# EAGLE library part DIP-BLACK-MALE-HEADER-VERT(18P-2.54) (library Seeed-OPL-Connector)
320020053
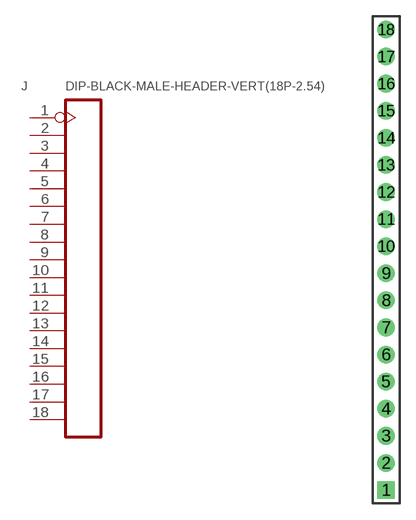
[diagram p88: symbol with the pads of H18-2.54; footprint H18-2.54]

Designator prefix J

## DIP-BLACK-MALE-HEADER-VERT(18P-2.54) (MPN: P125-1118A0BS116AX; VALUE: 18p-2.54)  [H18-2.54]
1  1  pas
2  2  pas
3  3  pas
4  4  pas
5  5  pas
6  6  pas
7  7  pas
8  8  pas
9  9  pas
10  10  pas
11  11  pas
12  12  pas
13  13  pas
14  14  pas
15  15  pas
16  16  pas
17  17  pas
18  18  pas

## Footprint H18-2.54 (pad centres in mm)
drill 0.889 pad 1.651 square: 1 0,-21.59
drill 0.889 pad 1.651: 2 0,-19.05; 3 0,-16.51; 4 0,-13.97; 5 0,-11.43; 6 0,-8.89; 7 0,-6.35; 8 0,-3.81; 9 0,-1.27; 10 0,1.27; 11 0,3.81; 12 0,6.35; 13 0,8.89; 14 0,11.43; 15 0,13.97; 16 0,16.51; 17 0,19.05; 18 0,21.59